# Altium integrated library Linear Technology Power Management Switching Regulator LTC1174-LTC3901.IntLib: 2647 symbols (part 65 of 364)
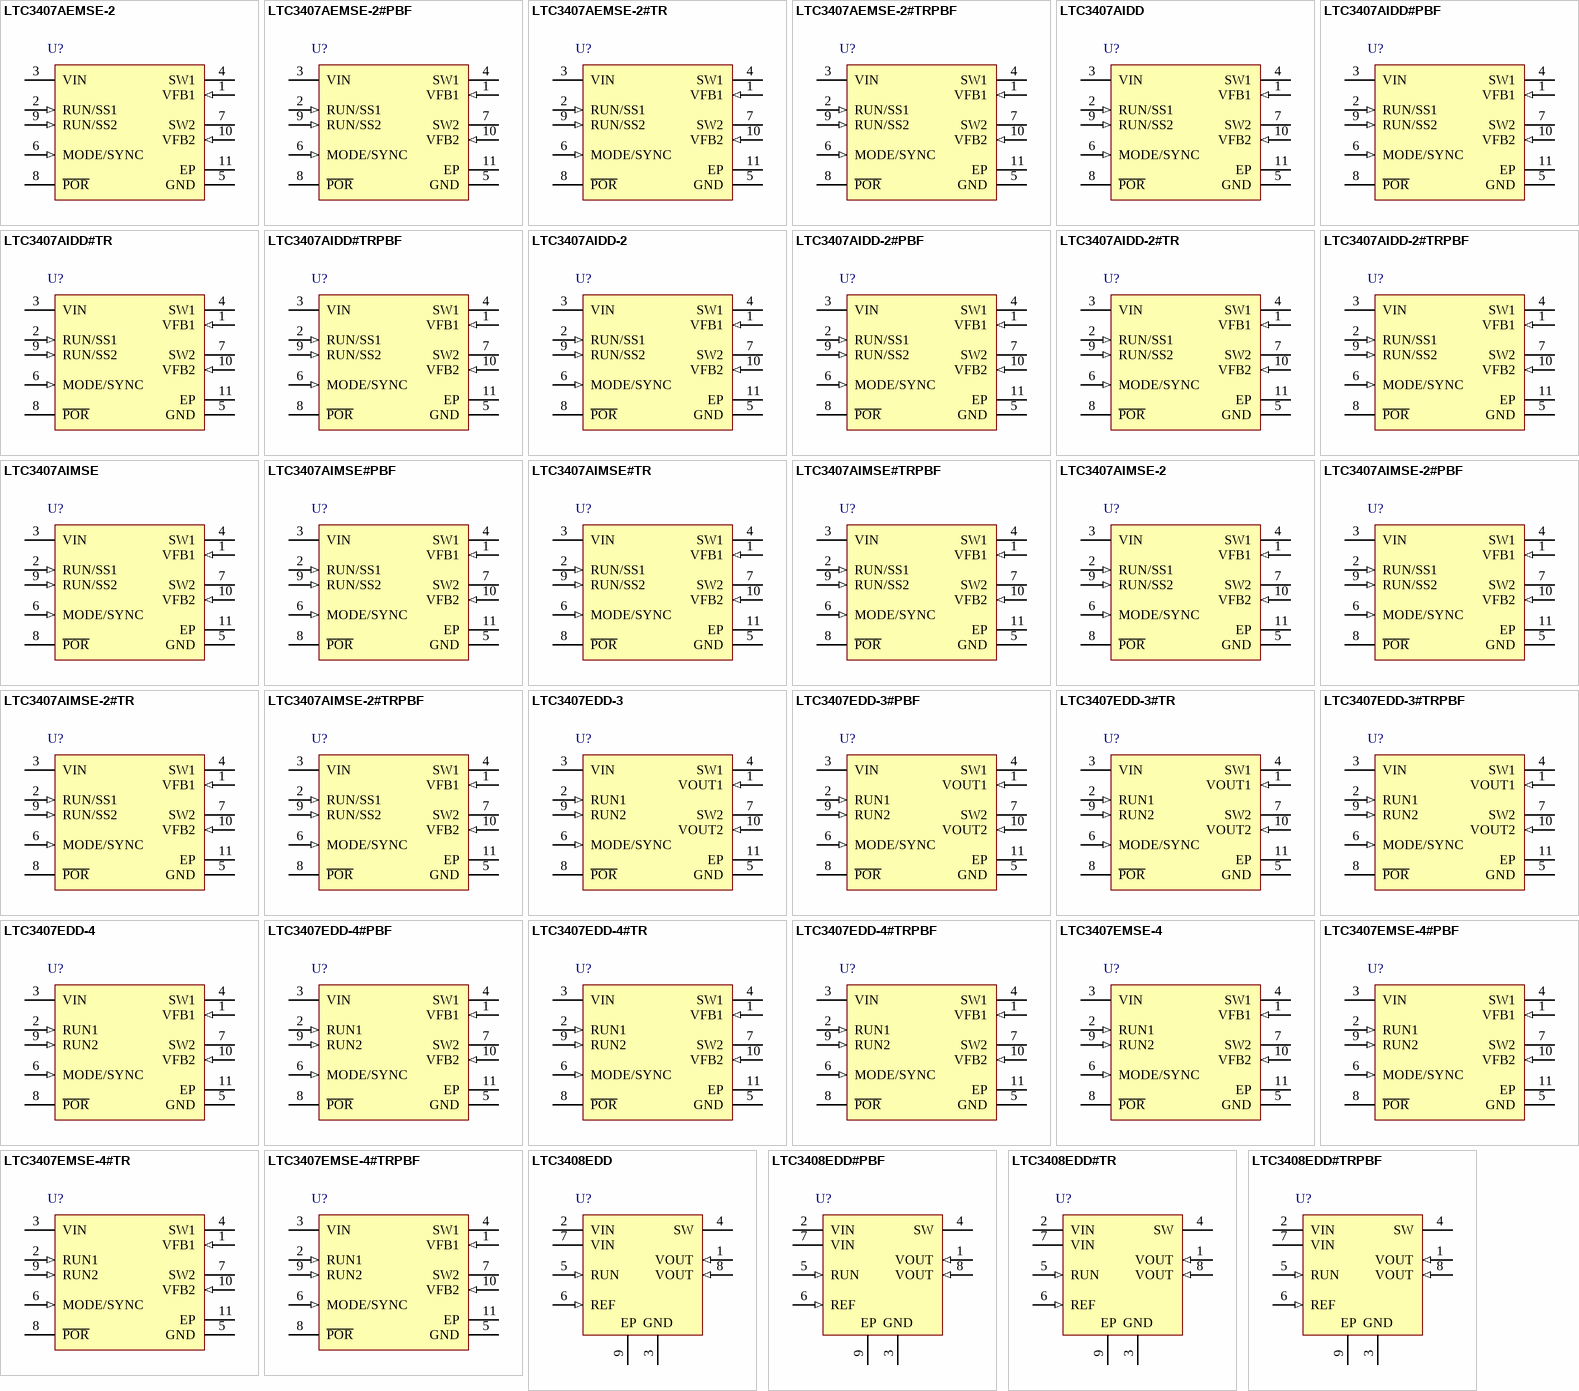
[diagram p248: symbols LTC3407AEMSE-2 to LTC3408EDD#TRPBF]

## LTC3408EDD#TR
designator U?
1.5 MHz, 600 mA Synchronous Step-Down Regulator with Bypass Transistor, 8-pin SON (DD-8), -40 to 85 degC, Tape and Reel; Manufacturer: Linear Technology; PartNumber: LTC3408EDD#TR; Number of Outputs: 1; PackageVersion: Jun-10; PackageReference: DD-8; PackageDescription: 8-Pin Plastic DFN, Body 3 x 3 mm, Pitch 0.5 mm; Supplier 1: Digi-Key; Supplier Part Number 1: LTC3408EDD#TR-ND; Packing: Tape and Reel; RoHS: FALSE; Mounting Technology: Surface Mount; Code_JEDEC: MO-229; ComponentLink1Description: Manufacturer URL; ComponentLink1URL: http://www.linear.com/; ComponentLink2Description: Datasheet; ComponentLink2URL: http://cds.linear.com/docs/en/datasheet/3408f.pdf; ComponentLink3Description: Package Specification; ComponentLink3URL: http://cds.linear.com/docs/en/packaging/DFN_8_05-08-1698.pdf
footprint LT-DD-8_V (SON, 8-Leads, Body 3x3mm, Pitch 0.5mm, Thermal Pad 1.65x2.38 mm)
pins: 1 VOUT (in) "Output Voltage Feedback Pin. An internal resistive divider divides the output voltage down by 3 for comparison to the external reference voltage. The drain of the P-channel bypass MOSFET is connected to this pin.", 2 VIN (power) "Main Supply Pin. Must be closely decoupled to GND, Pin 3, with a 10uF or greater ceramic capacitor.", 3 GND (power) "Ground Pin.", 4 SW (power) "Switch Node Connection to Inductor. This pin connects to the drains of the internal main and synchronous power MOSFET switches.", 5 RUN (in) "Run Control Input. Forcing this pin above 1.5V enables the part. Forcing this pin below 0.3V shuts down the device. In shutdown, all functions are disabled drawing <1uA supply current. Do not leave RUN floating.", 6 REF (in) "External Reference Input. Controls the output voltage to 3x the applied voltage at REF. Also turns on the bypass MOSFET when VREF > 1.2V.", 7 VIN (power) "Main Supply Pin. Must be closely decoupled to GND, Pin 3, with a 10uF or greater ceramic capacitor.", 8 VOUT (in) "Output Voltage Feedback Pin. An internal resistive divider divides the output voltage down by 3 for comparison to the external reference voltage. The drain of the P-channel bypass MOSFET is connected to this pin.", 9 EP (power) "Connect to GND, Pin 3."

## LTC3408EDD#TRPBF
designator U?
1.5 MHz, 600 mA Synchronous Step-Down Regulator with Bypass Transistor, 8-pin SON (DD-8), -40 to 85 degC, Pb-Free, Tape and Reel; Manufacturer: Linear Technology; PartNumber: LTC3408EDD#TRPBF; Number of Outputs: 1; PackageVersion: Jun-10; PackageReference: DD-8; PackageDescription: 8-Pin Plastic DFN, Body 3 x 3 mm, Pitch 0.5 mm; Supplier 1: Digi-Key; Supplier Part Number 1: LTC3408EDD#TRPBF-ND; Packing: Tape and Reel; RoHS: TRUE; Mounting Technology: Surface Mount; Code_JEDEC: MO-229; ComponentLink1Description: Manufacturer URL; ComponentLink1URL: http://www.linear.com/; ComponentLink2Description: Datasheet; ComponentLink2URL: http://cds.linear.com/docs/en/datasheet/3408f.pdf; ComponentLink3Description: Package Specification; ComponentLink3URL: http://cds.linear.com/docs/en/packaging/DFN_8_05-08-1698.pdf
footprint LT-DD-8_V (SON, 8-Leads, Body 3x3mm, Pitch 0.5mm, Thermal Pad 1.65x2.38 mm)
pins: 1 VOUT (in) "Output Voltage Feedback Pin. An internal resistive divider divides the output voltage down by 3 for comparison to the external reference voltage. The drain of the P-channel bypass MOSFET is connected to this pin.", 2 VIN (power) "Main Supply Pin. Must be closely decoupled to GND, Pin 3, with a 10uF or greater ceramic capacitor.", 3 GND (power) "Ground Pin.", 4 SW (power) "Switch Node Connection to Inductor. This pin connects to the drains of the internal main and synchronous power MOSFET switches.", 5 RUN (in) "Run Control Input. Forcing this pin above 1.5V enables the part. Forcing this pin below 0.3V shuts down the device. In shutdown, all functions are disabled drawing <1uA supply current. Do not leave RUN floating.", 6 REF (in) "External Reference Input. Controls the output voltage to 3x the applied voltage at REF. Also turns on the bypass MOSFET when VREF > 1.2V.", 7 VIN (power) "Main Supply Pin. Must be closely decoupled to GND, Pin 3, with a 10uF or greater ceramic capacitor.", 8 VOUT (in) "Output Voltage Feedback Pin. An internal resistive divider divides the output voltage down by 3 for comparison to the external reference voltage. The drain of the P-channel bypass MOSFET is connected to this pin.", 9 EP (power) "Connect to GND, Pin 3."

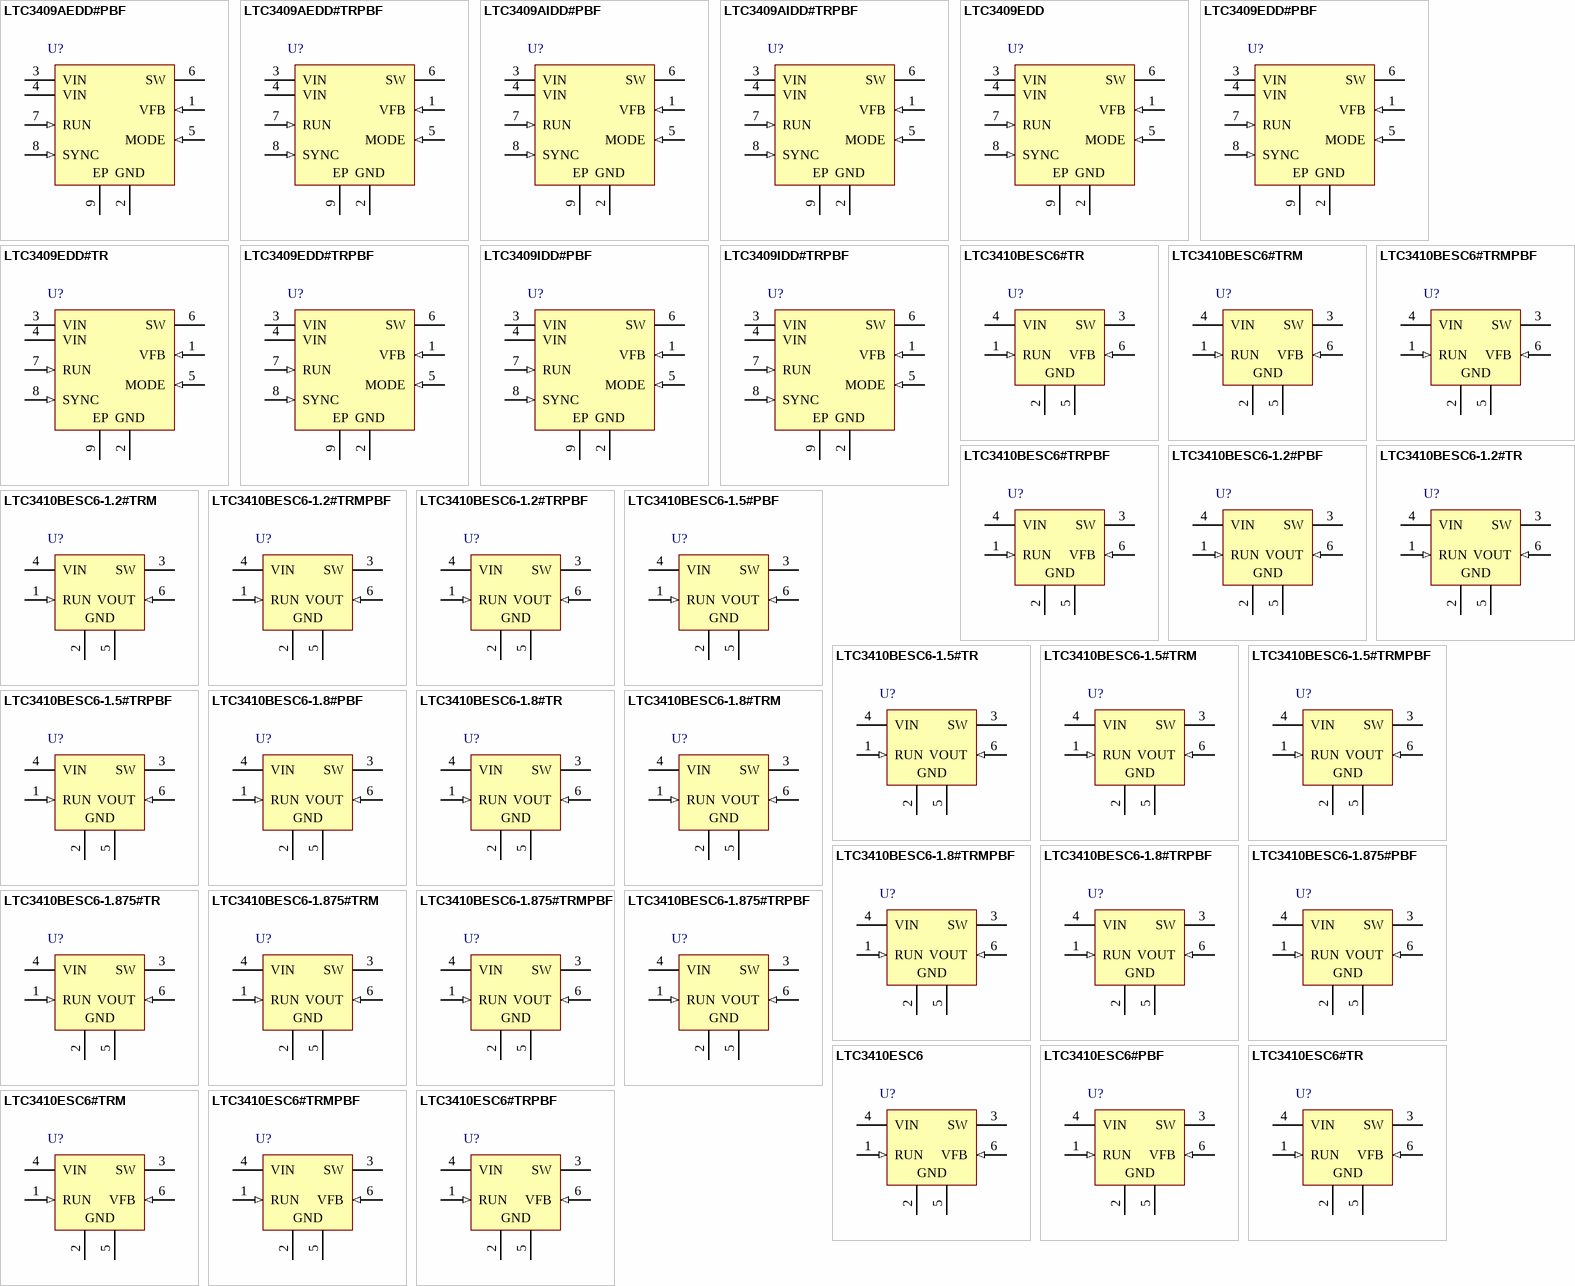
[diagram p20: symbols LTC3409AEDD#PBF to LTC3410ESC6#TRPBF]

## LTC3409AEDD#PBF
designator U?
600 mA Low Buck Regulator, 1.6 to 5.5 V Vin, 8-pin SON (DD-8), -40 to 85 degC, Pb-Free; Manufacturer: Linear Technology; PartNumber: LTC3409AEDD#PBF; Frequency Sync Range: 1MHz - 3MHz; Number of Outputs: 1; PackageVersion: Jun-10; PackageReference: DD-8; PackageDescription: 8-Pin Plastic DFN, Body 3 x 3 mm, Pitch 0.5 mm; Supplier 1: Digi-Key; Supplier Part Number 1: LTC3409AEDD#PBF-ND; RoHS: TRUE; Mounting Technology: Surface Mount; Code_JEDEC: MO-229; ComponentLink1Description: Manufacturer URL; ComponentLink1URL: http://www.linear.com/; ComponentLink2Description: Datasheet; ComponentLink2URL: http://cds.linear.com/docs/en/datasheet/3409af.pdf; ComponentLink3Description: Package Specification; ComponentLink3URL: http://cds.linear.com/docs/en/packaging/DFN_8_05-08-1698.pdf
footprint LT-DD-8_V (SON, 8-Leads, Body 3x3mm, Pitch 0.5mm, Thermal Pad 1.65x2.38 mm)
pins: 1 VFB (in) "Feedback Pin. Receives the feedback voltage from an external resistive divider across the output.", 2 GND (power) "Ground Pin.", 3 VIN (power) "Main Supply Pins. Must be closely decoupled to GND, Pin 2 and Pin 9, with a 4.7uF or greater ceramic capacitor.", 4 VIN (power) "Main Supply Pins. Must be closely decoupled to GND, Pin 2 and Pin 9, with a 4.7uF or greater ceramic capacitor.", 5 MODE (in) "Mode Select Input. To select pulse skipping mode, force this pin above 1.1V. Forcing this pin below 0.3V selects Burst Mode operation. Do not leave MODE floating.", 6 SW (power) "Switch Node Connection to Inductor. This pin connects to the drains of the internal main and synchronous power MOSFET switches.", 7 RUN (in) "Run Control Input. Forcing this pin above 1.1V enables the part. Forcing this pin below 0.3V shuts down the device. In shutdown, all functions are disabled drawing <1uA supply current. Do not leave RUN floating.", 8 SYNC (in) "External CLK Input/Fixed Switching Frequency Selection. Forcing this pin above 1.1V for greater than 30us selects 2.6MHz switching frequency. Forcing this pin below 0.3V for greater than 30us selects 1.7MHz switching (See Datasheet)", 9 EP (power) "The Exposed Pad is ground. It must be soldered to PCB ground to provide both electrical contact and optimum thermal performance."

## LTC3409AEDD#TRPBF
designator U?
600 mA Low Buck Regulator, 1.6 to 5.5 V Vin, 8-pin SON (DD-8), -40 to 85 degC, Pb-Free, Tape and Reel; Manufacturer: Linear Technology; PartNumber: LTC3409AEDD#TRPBF; Frequency Sync Range: 1MHz - 3MHz; Number of Outputs: 1; PackageVersion: Jun-10; PackageReference: DD-8; PackageDescription: 8-Pin Plastic DFN, Body 3 x 3 mm, Pitch 0.5 mm; Supplier 1: Digi-Key; Supplier Part Number 1: LTC3409AEDD#TRPBF-ND; Packing: Tape and Reel; RoHS: TRUE; Mounting Technology: Surface Mount; Code_JEDEC: MO-229; ComponentLink1Description: Manufacturer URL; ComponentLink1URL: http://www.linear.com/; ComponentLink2Description: Datasheet; ComponentLink2URL: http://cds.linear.com/docs/en/datasheet/3409af.pdf; ComponentLink3Description: Package Specification; ComponentLink3URL: http://cds.linear.com/docs/en/packaging/DFN_8_05-08-1698.pdf
footprint LT-DD-8_V (SON, 8-Leads, Body 3x3mm, Pitch 0.5mm, Thermal Pad 1.65x2.38 mm)
pins: 1 VFB (in) "Feedback Pin. Receives the feedback voltage from an external resistive divider across the output.", 2 GND (power) "Ground Pin.", 3 VIN (power) "Main Supply Pins. Must be closely decoupled to GND, Pin 2 and Pin 9, with a 4.7uF or greater ceramic capacitor.", 4 VIN (power) "Main Supply Pins. Must be closely decoupled to GND, Pin 2 and Pin 9, with a 4.7uF or greater ceramic capacitor.", 5 MODE (in) "Mode Select Input. To select pulse skipping mode, force this pin above 1.1V. Forcing this pin below 0.3V selects Burst Mode operation. Do not leave MODE floating.", 6 SW (power) "Switch Node Connection to Inductor. This pin connects to the drains of the internal main and synchronous power MOSFET switches.", 7 RUN (in) "Run Control Input. Forcing this pin above 1.1V enables the part. Forcing this pin below 0.3V shuts down the device. In shutdown, all functions are disabled drawing <1uA supply current. Do not leave RUN floating.", 8 SYNC (in) "External CLK Input/Fixed Switching Frequency Selection. Forcing this pin above 1.1V for greater than 30us selects 2.6MHz switching frequency. Forcing this pin below 0.3V for greater than 30us selects 1.7MHz switching (See Datasheet)", 9 EP (power) "The Exposed Pad is ground. It must be soldered to PCB ground to provide both electrical contact and optimum thermal performance."

## LTC3409AIDD#PBF
designator U?
600 mA Low Buck Regulator, 1.6 to 5.5 V Vin, 8-pin SON (DD-8), -40 to 85 degC, Pb-Free; Manufacturer: Linear Technology; PartNumber: LTC3409AIDD#PBF; Frequency Sync Range: 1MHz - 3MHz; Number of Outputs: 1; PackageVersion: Jun-10; PackageReference: DD-8; PackageDescription: 8-Pin Plastic DFN, Body 3 x 3 mm, Pitch 0.5 mm; Supplier 1: Digi-Key; Supplier Part Number 1: LTC3409AIDD#PBF-ND; RoHS: TRUE; Mounting Technology: Surface Mount; Code_JEDEC: MO-229; ComponentLink1Description: Manufacturer URL; ComponentLink1URL: http://www.linear.com/; ComponentLink2Description: Datasheet; ComponentLink2URL: http://cds.linear.com/docs/en/datasheet/3409af.pdf; ComponentLink3Description: Package Specification; ComponentLink3URL: http://cds.linear.com/docs/en/packaging/DFN_8_05-08-1698.pdf
footprint LT-DD-8_V (SON, 8-Leads, Body 3x3mm, Pitch 0.5mm, Thermal Pad 1.65x2.38 mm)
pins: 1 VFB (in) "Feedback Pin. Receives the feedback voltage from an external resistive divider across the output.", 2 GND (power) "Ground Pin.", 3 VIN (power) "Main Supply Pins. Must be closely decoupled to GND, Pin 2 and Pin 9, with a 4.7uF or greater ceramic capacitor.", 4 VIN (power) "Main Supply Pins. Must be closely decoupled to GND, Pin 2 and Pin 9, with a 4.7uF or greater ceramic capacitor.", 5 MODE (in) "Mode Select Input. To select pulse skipping mode, force this pin above 1.1V. Forcing this pin below 0.3V selects Burst Mode operation. Do not leave MODE floating.", 6 SW (power) "Switch Node Connection to Inductor. This pin connects to the drains of the internal main and synchronous power MOSFET switches.", 7 RUN (in) "Run Control Input. Forcing this pin above 1.1V enables the part. Forcing this pin below 0.3V shuts down the device. In shutdown, all functions are disabled drawing <1uA supply current. Do not leave RUN floating.", 8 SYNC (in) "External CLK Input/Fixed Switching Frequency Selection. Forcing this pin above 1.1V for greater than 30us selects 2.6MHz switching frequency. Forcing this pin below 0.3V for greater than 30us selects 1.7MHz switching (See Datasheet)", 9 EP (power) "The Exposed Pad is ground. It must be soldered to PCB ground to provide both electrical contact and optimum thermal performance."

## LTC3409AIDD#TRPBF
designator U?
600 mA Low Buck Regulator, 1.6 to 5.5 V Vin, 8-pin SON (DD-8), -40 to 85 degC, Pb-Free, Tape and Reel; Manufacturer: Linear Technology; PartNumber: LTC3409AIDD#TRPBF; Frequency Sync Range: 1MHz - 3MHz; Number of Outputs: 1; PackageVersion: Jun-10; PackageReference: DD-8; PackageDescription: 8-Pin Plastic DFN, Body 3 x 3 mm, Pitch 0.5 mm; Supplier 1: Digi-Key; Supplier Part Number 1: LTC3409AIDD#TRPBF-ND; Packing: Tape and Reel; RoHS: TRUE; Mounting Technology: Surface Mount; Code_JEDEC: MO-229; ComponentLink1Description: Manufacturer URL; ComponentLink1URL: http://www.linear.com/; ComponentLink2Description: Datasheet; ComponentLink2URL: http://cds.linear.com/docs/en/datasheet/3409af.pdf; ComponentLink3Description: Package Specification; ComponentLink3URL: http://cds.linear.com/docs/en/packaging/DFN_8_05-08-1698.pdf
footprint LT-DD-8_V (SON, 8-Leads, Body 3x3mm, Pitch 0.5mm, Thermal Pad 1.65x2.38 mm)
pins: 1 VFB (in) "Feedback Pin. Receives the feedback voltage from an external resistive divider across the output.", 2 GND (power) "Ground Pin.", 3 VIN (power) "Main Supply Pins. Must be closely decoupled to GND, Pin 2 and Pin 9, with a 4.7uF or greater ceramic capacitor.", 4 VIN (power) "Main Supply Pins. Must be closely decoupled to GND, Pin 2 and Pin 9, with a 4.7uF or greater ceramic capacitor.", 5 MODE (in) "Mode Select Input. To select pulse skipping mode, force this pin above 1.1V. Forcing this pin below 0.3V selects Burst Mode operation. Do not leave MODE floating.", 6 SW (power) "Switch Node Connection to Inductor. This pin connects to the drains of the internal main and synchronous power MOSFET switches.", 7 RUN (in) "Run Control Input. Forcing this pin above 1.1V enables the part. Forcing this pin below 0.3V shuts down the device. In shutdown, all functions are disabled drawing <1uA supply current. Do not leave RUN floating.", 8 SYNC (in) "External CLK Input/Fixed Switching Frequency Selection. Forcing this pin above 1.1V for greater than 30us selects 2.6MHz switching frequency. Forcing this pin below 0.3V for greater than 30us selects 1.7MHz switching (See Datasheet)", 9 EP (power) "The Exposed Pad is ground. It must be soldered to PCB ground to provide both electrical contact and optimum thermal performance."

## LTC3409EDD
designator U?
600 mA Low Buck Regulator, 1.6 to 5.5 V Vin, 8-pin SON (DD-8), -40 to 85 degC; Manufacturer: Linear Technology; PartNumber: LTC3409EDD; Frequency Sync Range: 1MHz - 3MHz; Number of Outputs: 1; DatasheetVersion: Rev. C; PackageVersion: Jun-10; PackageReference: DD-8; PackageDescription: 8-Pin Plastic DFN, Body 3 x 3 mm, Pitch 0.5 mm; RoHS: FALSE; Mounting Technology: Surface Mount; Code_JEDEC: MO-229; ComponentLink1Description: Manufacturer URL; ComponentLink1URL: http://www.linear.com/; ComponentLink2Description: Datasheet; ComponentLink2URL: http://cds.linear.com/docs/en/datasheet/3409fc.pdf; ComponentLink3Description: Package Specification; ComponentLink3URL: http://cds.linear.com/docs/en/packaging/DFN_8_05-08-1698.pdf
footprint LT-DD-8_V (SON, 8-Leads, Body 3x3mm, Pitch 0.5mm, Thermal Pad 1.65x2.38 mm)
pins: 1 VFB (in) "Feedback Pin. Receives the feedback voltage from an external resistive divider across the output.", 2 GND (power) "Ground Pin.", 3 VIN (power) "Main Supply Pins. Must be closely decoupled to GND, Pin 2 and Pin 9, with a 4.7uF or greater ceramic capacitor.", 4 VIN (power) "Main Supply Pins. Must be closely decoupled to GND, Pin 2 and Pin 9, with a 4.7uF or greater ceramic capacitor.", 5 MODE (in) "Mode Select Input. To select pulse skipping mode, force this pin above 1.1V. Forcing this pin below 0.3V selects Burst Mode operation. Do not leave MODE floating.", 6 SW (power) "Switch Node Connection to Inductor. This pin connects to the drains of the internal main and synchronous power MOSFET switches.", 7 RUN (in) "Run Control Input. Forcing this pin above 1.1V enables the part. Forcing this pin below 0.3V shuts down the device. In shutdown, all functions are disabled drawing <1uA supply current. Do not leave RUN floating.", 8 SYNC (in) "External CLK Input/Fixed Switching Frequency Selection. Forcing this pin above 1.1V for greater than 30us selects 2.6MHz switching frequency. Forcing this pin below 0.3V for greater than 30us selects 1.7MHz switching (See Datasheet)", 9 EP (power) "The Exposed Pad is ground. It must be soldered to PCB ground to provide both electrical contact and optimum thermal performance."